# EAGLE library part WE-FB_EE16/8/5 (library WE-FB)
WE-FB Flyback Transformer suitable for LT3573/ LT3574/ LT3575/ LT3748 Characteristics Easy design-in solution Less external components needed Small board space Low cost No optocoupler needed! Long term reliability voltage control No aging Same external parts for different output voltages Easy design of custom power supply due to standard circuit and change of transformers and two components for feedback loop Isolation voltage up to 2.5 kV Applications Isolated power design Sensor interfaces Isolated telecom converters Power over Ethernet <https://www.we-online.com/catalog/media/o35283v209%20Family_we-fb_LT%20Kits_gruppe.jpg> Details see: www.we-online.com/catalog/WE-FB <www.we-online.com/catalog/WE-FB/?utm_source=eagle_model&utm_medium=description_link&utm_campaign=eisos_eagle> Updated by Ella Wu 2022-07-21 2022 Wurth Elektronik
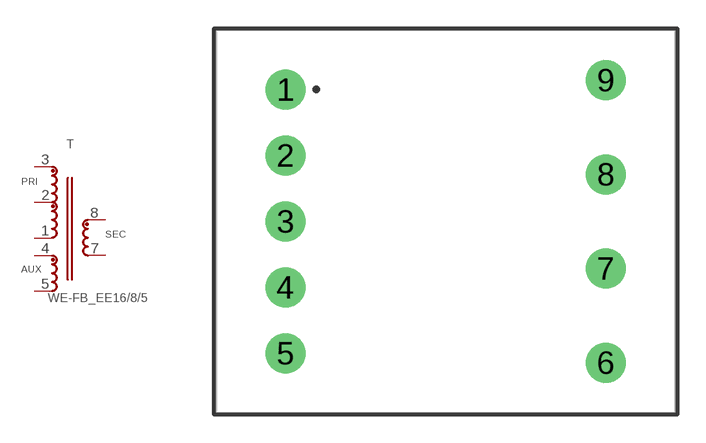
[diagram p12: symbol with the pads of WE-FB_EE16/8/5; footprint WE-FB_EE16/8/5]

Designator prefix T

## WE-FB_EE16/8/5_750811048 (DATASHEET-URL: https://www.we-online.com/redexpert/spec/750811048?ae; IOUT: 0.3A; ISAT: 0.65A; L: 1500uH; LSMIN: 22uH; MOUNT: THT; N: 4.5:1; PART-NUMBER: 750811048; VALUE: 750811048; VIN: 100-400V(DC); VOUT: 30V; VT: 4500V(AC))  [WE-FB_EE16/8/5]
1  3  pas
2  2  pas
3  1  pas
4  4  pas
5  5  pas
7  6  pas
8  7  pas

## Footprint WE-FB_EE16/8/5 (pad centres in mm)
WE-FB Flyback Transformer suitable for LT3573/ LT3574/ LT3575/ LT3748 Size: EE16/8/5 THT 9Pin
drill 1.42: 1 -8.5,7; 2 -8.5,3.5; 3 -8.5,0; 4 -8.5,-3.5; 5 -8.5,-7; 6 8.5,-7.5; 7 8.5,-2.5; 8 8.5,2.5; 9 8.5,7.5